# Altium schematic symbol library F 蜂鸣器.SchLib: 1 symbol
Pins are listed as number, name and electrical type; pins without a type are passive.

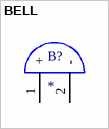
[diagram p0: symbol BELL]

## BELL
designator B?
蜂鸣器
footprint BELL_14.5x7.5 (蜂鸣器)
pins: 1 +, 2 -